# EAGLE library part ZXMHC3F381N8 (library NBitWonder)
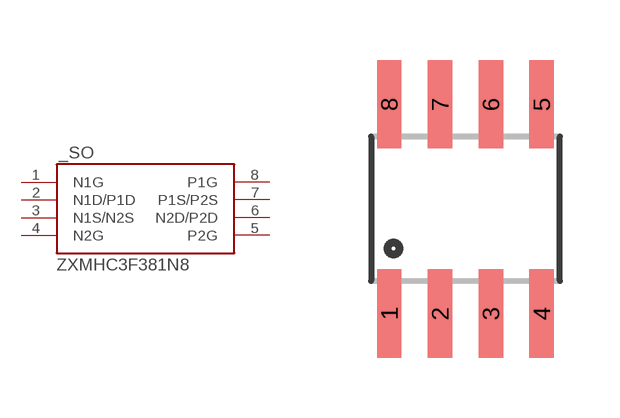
[diagram p21: symbol with the pads of SOIC8; footprint SOIC8]

Designator prefix _SO

## ZXMHC3F381N8  [SOIC8]
1  N1G
2  N1D/P1D
3  N1S/N2S
4  N2G
5  P2G
6  N2D/P2D
7  P1S/P2S
8  P1G

## Footprint SOIC8 (pad centres in mm)
smd 0.61 x 2.21: 1 -1.905,-2.616; 2 -0.635,-2.616; 3 0.635,-2.616; 4 1.905,-2.616; 5 1.905,2.616; 6 0.635,2.616; 7 -0.635,2.616; 8 -1.905,2.616